# Altium integrated library Rohm Semiconductor Reflective Type Photosensors.IntLib: 1 symbol
Pins are listed as number, name and electrical type; pins without a type are passive.

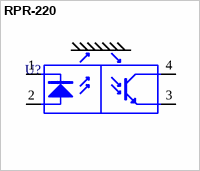
[diagram p0: symbol RPR-220]

## RPR-220
designator U?
Reflective Optical Sensor 0.236" (6mm) Radial - 4 Leads; Manufacturer: Rohm Semiconductor; PartNumber: RPR-220; Package: Radial_B4.9x6.4mm_PH_2.8mm_PV_2.5mm; PackageDescription: Radial - 4 Leads, Body 6.4 x 4.9mm, Height 6.5mm, Pitch(H) 2.8mm, Pitch(V) 2.5mm; Supplier 1: Digi-Key; Supplier Part Number 1: 511-1366-ND
pins: 1 A "Cathode", 2 K "Anode", 3 E "Emitter", 4 C "Collector"